# Altium footprint library HYCW02-SATA07-250B.PcbLib: 1 footprints
Each footprint in its own frame and in the unit in brackets; x right, y up, seen from the top. Pads: shape width x height; smd on the part's side, far side on the other; paste and mask are expansions set on the pad; w line width, h text height; cw(c..) or ccw(c..) is an arc to the next point about the centre after c.
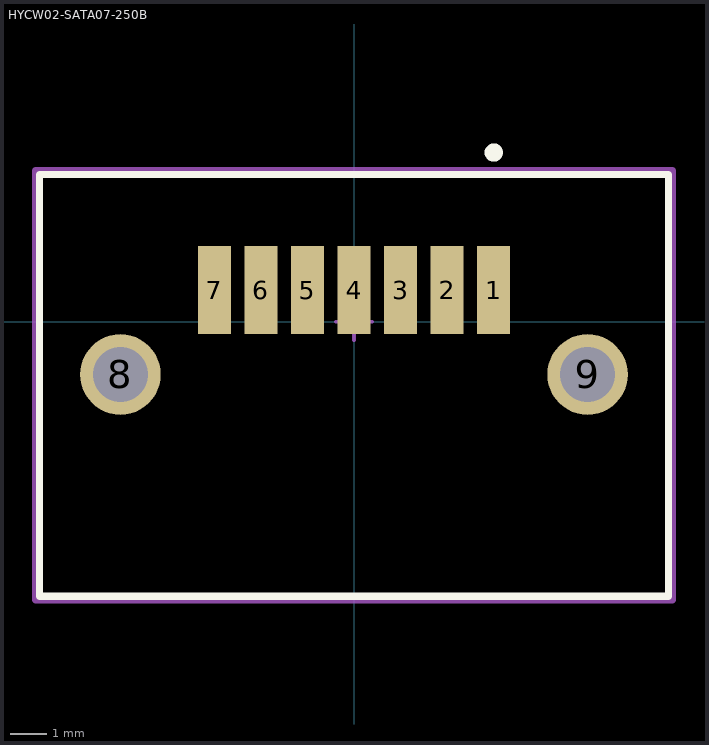
[diagram p0: the footprint, top view; thin cyan lines are the x and y axes]

## HYCW02-SATA07-250B [mm]
pads (9):
  rect 0.9x2.4 smd paste+0 mask+0: 1(3.81,0.865) 2(2.54,0.865) 3(1.27,0.865) 4(0,0.865) 5(-1.27,0.865) 6(-2.54,0.865) 7(-3.81,0.865)
  round 2.2 hole 1.5 paste-1000 mask+0: 8(-6.37,-1.435) 9(6.37,-1.435)
Top Overlay:
  circle w0.25: c3.81,4.615 r0.125
  lines w0.2: -8.575,-7.485 8.575,-7.485 8.575,4.015 -8.575,4.015 -8.575,-7.485
Top Assembly:
  lines w0.2: -8.675,-7.585 -8.675,4.115 8.675,4.115 8.675,-7.585 -8.675,-7.585
  text ".Designator" at 0,0.188 h1
Top Courtyard:
  lines w0.2: -8.675,-7.585 -8.675,4.115 8.675,4.115 8.675,-7.585 -8.675,-7.585
Top Component Center:
  lines w0.1: -0.5,0 0.5,0 ; 0,-0.5 0,0.5